# Altium schematic symbol library kmilo17pet-TI_MSP430.SchLib: 1463 symbols (part 7 of 130)
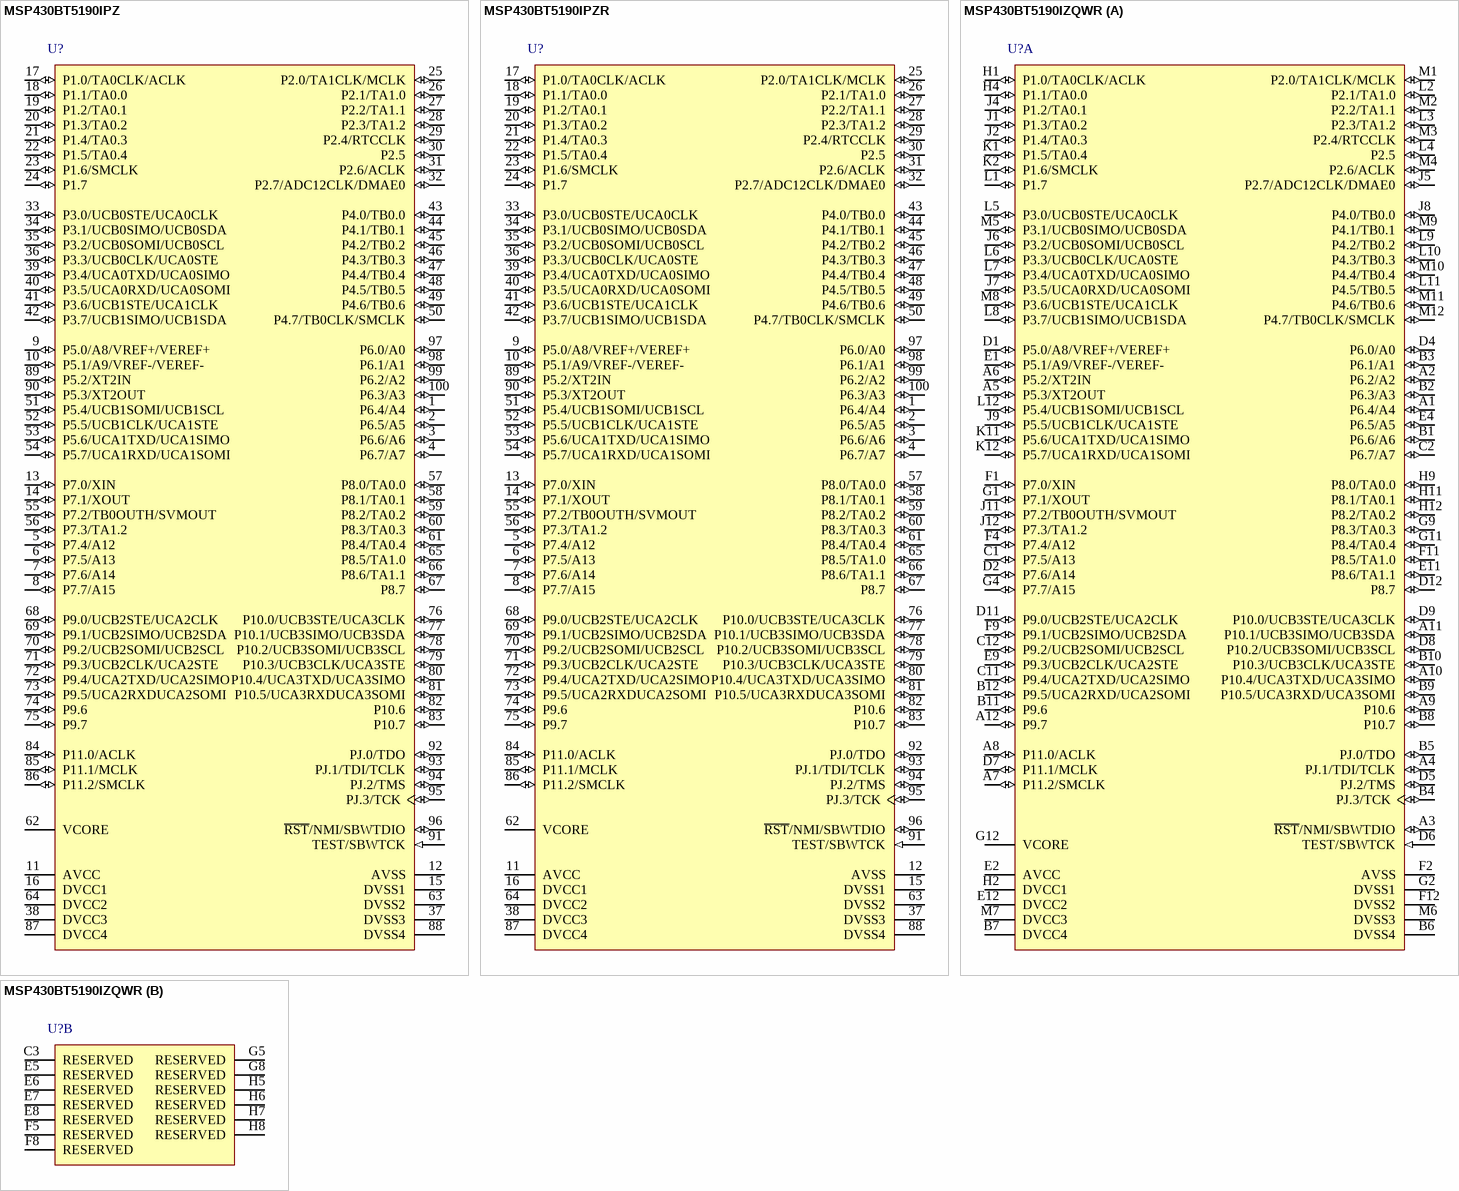
[diagram p240: symbols MSP430BT5190IPZ to MSP430BT5190IZQWR]

## MSP430BT5190IPZ
designator U?
25 MHz Mixed Signal Microcontroller with 256 KB Flash, 16384 B SRAM, -40 to 85 degC, 100-pin QFP (PZ), Green (RoHS & no Sb/Br); Manufacturer: Texas Instruments; PartNumber: MSP430BT5190IPZ; ADC: 12-bit SAR; ADC Channels: 16; Brown Out Reset: Yes; DMA: 3; Flash(KB): 256; Frequency(MHz): 25; Multiplier: 32x32; SRAM(B): 16384; SubFamily: 5 Series; USCI_A (UART/LIN/IrDA/SPI): 4; DatasheetVersion: SLAS703; PackageVersion: 4040149/B; PackageReference: PZ100; PackageDescription: 100-Pin Plastic Flat Pack, Body 14 x 14 mm, Pitch 0.5 mm; Supplier 1: Digi-Key; Supplier Part Number 1: 296-33412-5-ND; Supplier 2: Newark; Supplier Part Number 2: 01T0521; Supplier 3: Mouser; Supplier Part Number 3: 595-MSP430BT5190IPZ; Eco-Plan: Green (RoHS & no Sb/Br); Real-Time Clock: Yes; SVS: Yes; Temp Sensor: Yes; Timers - 16-bit: 3; USCI_B (I2C & SPI): 4; Watchdog: Yes; Mounting Technology: Surface Mount; Code_JEDEC: MS-026; ComponentLink1Description: Manufacturer URL; ComponentLink1URL: http://www.ti.com/; ComponentLink2Description: Datasheet; ComponentLink2URL: http://www.ti.com/general/docs/lit/getliterature.tsp?genericPartNumber=MSP430BT5190&fileType=pdf; ComponentLink3Description: Package Specification; ComponentLink3URL: http://www.ti.com/lit/ml/mtqf013a/mtqf013a.pdf
footprint TI-PZ100_N (QFP, 100-Leads, Body 14x14mm, Pitch 0.5mm, IPC Medium Density)
pins: 1 P6.4/A4 (io), 2 P6.5/A5 (io), 3 P6.6/A6 (io), 4 P6.7/A7 (io), 5 P7.4/A12 (io), 6 P7.5/A13 (io), 7 P7.6/A14 (io), 8 P7.7/A15 (io), 9 P5.0/A8/VREF+/VEREF+ (io), 10 P5.1/A9/VREF-/VEREF- (io), 11 AVCC (power) "Analog power supply", 12 AVSS (power) "Analog ground supply", 13 P7.0/XIN (io), 14 P7.1/XOUT (io), 15 DVSS1 (power) "Digital ground supply", 16 DVCC1 (power) "Digital power supply", 17 P1.0/TA0CLK/ACLK (io), 18 P1.1/TA0.0 (io), 19 P1.2/TA0.1 (io), 20 P1.3/TA0.2 (io), 21 P1.4/TA0.3 (io), 22 P1.5/TA0.4 (io), 23 P1.6/SMCLK (io), 24 P1.7 (io) "General-purpose digital I/O with port interrupt", 25 P2.0/TA1CLK/MCLK (io), 26 P2.1/TA1.0 (io), 27 P2.2/TA1.1 (io), 28 P2.3/TA1.2 (io), 29 P2.4/RTCCLK (io), 30 P2.5 (io) "General-purpose digital I/O with port interrupt", 31 P2.6/ACLK (io), 32 P2.7/ADC12CLK/DMAE0 (io), 33 P3.0/UCB0STE/UCA0CLK (io), 34 P3.1/UCB0SIMO/UCB0SDA (io), 35 P3.2/UCB0SOMI/UCB0SCL (io), 36 P3.3/UCB0CLK/UCA0STE (io), 37 DVSS3 (power) "Digital ground supply", 38 DVCC3 (power) "Digital power supply", 39 P3.4/UCA0TXD/UCA0SIMO (io), 40 P3.5/UCA0RXD/UCA0SOMI (io), 41 P3.6/UCB1STE/UCA1CLK (io), 42 P3.7/UCB1SIMO/UCB1SDA (io), 43 P4.0/TB0.0 (io), 44 P4.1/TB0.1 (io), 45 P4.2/TB0.2 (io), 46 P4.3/TB0.3 (io), 47 P4.4/TB0.4 (io), 48 P4.5/TB0.5 (io), 49 P4.6/TB0.6 (io), 50 P4.7/TB0CLK/SMCLK (io), 51 P5.4/UCB1SOMI/UCB1SCL (io), 52 P5.5/UCB1CLK/UCA1STE (io), 53 P5.6/UCA1TXD/UCA1SIMO (io), 54 P5.7/UCA1RXD/UCA1SOMI (io), 55 P7.2/TB0OUTH/SVMOUT (io), 56 P7.3/TA1.2 (io), 57 P8.0/TA0.0 (io), 58 P8.1/TA0.1 (io), 59 P8.2/TA0.2 (io), 60 P8.3/TA0.3 (io), 61 P8.4/TA0.4 (io), 62 VCORE "Regulated core power supply output (internal usage only, no external current loading)", 63 DVSS2 (power) "Digital ground supply", 64 DVCC2 (power) "Digital power supply", 65 P8.5/TA1.0 (io), 66 P8.6/TA1.1 (io), 67 P8.7 (io) "General-purpose digital I/O", 68 P9.0/UCB2STE/UCA2CLK (io), 69 P9.1/UCB2SIMO/UCB2SDA (io), 70 P9.2/UCB2SOMI/UCB2SCL (io), 71 P9.3/UCB2CLK/UCA2STE (io), 72 P9.4/UCA2TXD/UCA2SIMO (io), 73 P9.5/UCA2RXDUCA2SOMI (io), 74 P9.6 (io) "General-purpose digital I/O", 75 P9.7 (io) "General-purpose digital I/O", 76 P10.0/UCB3STE/UCA3CLK (io), 77 P10.1/UCB3SIMO/UCB3SDA (io), 78 P10.2/UCB3SOMI/UCB3SCL (io), 79 P10.3/UCB3CLK/UCA3STE (io), 80 P10.4/UCA3TXD/UCA3SIMO (io), 81 P10.5/UCA3RXDUCA3SOMI (io), 82 P10.6 (io) "General-purpose digital I/O", 83 P10.7 (io) "General-purpose digital I/O", 84 P11.0/ACLK (io), 85 P11.1/MCLK (io), 86 P11.2/SMCLK (io), 87 DVCC4 (power) "Digital power supply", 88 DVSS4 (power) "Digital ground supply", 89 P5.2/XT2IN (io), 90 P5.3/XT2OUT (io), 91 TEST/SBWTCK (in), 92 PJ.0/TDO (io), 93 PJ.1/TDI/TCLK (io), 94 PJ.2/TMS (io), 95 PJ.3/TCK (io), 96 ~{RST}/NMI/SBWTDIO (io), 97 P6.0/A0 (io), 98 P6.1/A1 (io), 99 P6.2/A2 (io), 100 P6.3/A3 (io)

## MSP430BT5190IPZR
designator U?
25 MHz Mixed Signal Microcontroller with 256 KB Flash, 16384 B SRAM, -40 to 85 degC, 100-pin QFP (PZ), Green (RoHS & no Sb/Br); Manufacturer: Texas Instruments; PartNumber: MSP430BT5190IPZR; ADC: 12-bit SAR; ADC Channels: 16; Brown Out Reset: Yes; DMA: 3; Flash(KB): 256; Frequency(MHz): 25; Multiplier: 32x32; SRAM(B): 16384; SubFamily: 5 Series; USCI_A (UART/LIN/IrDA/SPI): 4; DatasheetVersion: SLAS703; PackageVersion: 4040149/B; PackageReference: PZ100; PackageDescription: 100-Pin Plastic Flat Pack, Body 14 x 14 mm, Pitch 0.5 mm; Supplier 1: Digi-Key; Supplier Part Number 1: 296-28149-2-ND; Supplier 2: Digi-Key; Supplier Part Number 2: 296-28149-1-ND; Supplier 3: Digi-Key; Supplier Part Number 3: 296-28149-6-ND; Supplier 4: Newark; Supplier Part Number 4: 01T0522; Supplier 5: Mouser; Supplier Part Number 5: 595-MSP430BT5190IPZR; Eco-Plan: Green (RoHS & no Sb/Br); Real-Time Clock: Yes; SVS: Yes; Temp Sensor: Yes; Timers - 16-bit: 3; USCI_B (I2C & SPI): 4; Watchdog: Yes; Mounting Technology: Surface Mount; Code_JEDEC: MS-026; ComponentLink1Description: Manufacturer URL; ComponentLink1URL: http://www.ti.com/; ComponentLink2Description: Datasheet; ComponentLink2URL: http://www.ti.com/general/docs/lit/getliterature.tsp?genericPartNumber=MSP430BT5190&fileType=pdf; ComponentLink3Description: Package Specification; ComponentLink3URL: http://www.ti.com/lit/ml/mtqf013a/mtqf013a.pdf
footprint TI-PZ100_N (QFP, 100-Leads, Body 14x14mm, Pitch 0.5mm, IPC Medium Density)
pins: 1 P6.4/A4 (io), 2 P6.5/A5 (io), 3 P6.6/A6 (io), 4 P6.7/A7 (io), 5 P7.4/A12 (io), 6 P7.5/A13 (io), 7 P7.6/A14 (io), 8 P7.7/A15 (io), 9 P5.0/A8/VREF+/VEREF+ (io), 10 P5.1/A9/VREF-/VEREF- (io), 11 AVCC (power) "Analog power supply", 12 AVSS (power) "Analog ground supply", 13 P7.0/XIN (io), 14 P7.1/XOUT (io), 15 DVSS1 (power) "Digital ground supply", 16 DVCC1 (power) "Digital power supply", 17 P1.0/TA0CLK/ACLK (io), 18 P1.1/TA0.0 (io), 19 P1.2/TA0.1 (io), 20 P1.3/TA0.2 (io), 21 P1.4/TA0.3 (io), 22 P1.5/TA0.4 (io), 23 P1.6/SMCLK (io), 24 P1.7 (io) "General-purpose digital I/O with port interrupt", 25 P2.0/TA1CLK/MCLK (io), 26 P2.1/TA1.0 (io), 27 P2.2/TA1.1 (io), 28 P2.3/TA1.2 (io), 29 P2.4/RTCCLK (io), 30 P2.5 (io) "General-purpose digital I/O with port interrupt", 31 P2.6/ACLK (io), 32 P2.7/ADC12CLK/DMAE0 (io), 33 P3.0/UCB0STE/UCA0CLK (io), 34 P3.1/UCB0SIMO/UCB0SDA (io), 35 P3.2/UCB0SOMI/UCB0SCL (io), 36 P3.3/UCB0CLK/UCA0STE (io), 37 DVSS3 (power) "Digital ground supply", 38 DVCC3 (power) "Digital power supply", 39 P3.4/UCA0TXD/UCA0SIMO (io), 40 P3.5/UCA0RXD/UCA0SOMI (io), 41 P3.6/UCB1STE/UCA1CLK (io), 42 P3.7/UCB1SIMO/UCB1SDA (io), 43 P4.0/TB0.0 (io), 44 P4.1/TB0.1 (io), 45 P4.2/TB0.2 (io), 46 P4.3/TB0.3 (io), 47 P4.4/TB0.4 (io), 48 P4.5/TB0.5 (io), 49 P4.6/TB0.6 (io), 50 P4.7/TB0CLK/SMCLK (io), 51 P5.4/UCB1SOMI/UCB1SCL (io), 52 P5.5/UCB1CLK/UCA1STE (io), 53 P5.6/UCA1TXD/UCA1SIMO (io), 54 P5.7/UCA1RXD/UCA1SOMI (io), 55 P7.2/TB0OUTH/SVMOUT (io), 56 P7.3/TA1.2 (io), 57 P8.0/TA0.0 (io), 58 P8.1/TA0.1 (io), 59 P8.2/TA0.2 (io), 60 P8.3/TA0.3 (io), 61 P8.4/TA0.4 (io), 62 VCORE "Regulated core power supply output (internal usage only, no external current loading)", 63 DVSS2 (power) "Digital ground supply", 64 DVCC2 (power) "Digital power supply", 65 P8.5/TA1.0 (io), 66 P8.6/TA1.1 (io), 67 P8.7 (io) "General-purpose digital I/O", 68 P9.0/UCB2STE/UCA2CLK (io), 69 P9.1/UCB2SIMO/UCB2SDA (io), 70 P9.2/UCB2SOMI/UCB2SCL (io), 71 P9.3/UCB2CLK/UCA2STE (io), 72 P9.4/UCA2TXD/UCA2SIMO (io), 73 P9.5/UCA2RXDUCA2SOMI (io), 74 P9.6 (io) "General-purpose digital I/O", 75 P9.7 (io) "General-purpose digital I/O", 76 P10.0/UCB3STE/UCA3CLK (io), 77 P10.1/UCB3SIMO/UCB3SDA (io), 78 P10.2/UCB3SOMI/UCB3SCL (io), 79 P10.3/UCB3CLK/UCA3STE (io), 80 P10.4/UCA3TXD/UCA3SIMO (io), 81 P10.5/UCA3RXDUCA3SOMI (io), 82 P10.6 (io) "General-purpose digital I/O", 83 P10.7 (io) "General-purpose digital I/O", 84 P11.0/ACLK (io), 85 P11.1/MCLK (io), 86 P11.2/SMCLK (io), 87 DVCC4 (power) "Digital power supply", 88 DVSS4 (power) "Digital ground supply", 89 P5.2/XT2IN (io), 90 P5.3/XT2OUT (io), 91 TEST/SBWTCK (in), 92 PJ.0/TDO (io), 93 PJ.1/TDI/TCLK (io), 94 PJ.2/TMS (io), 95 PJ.3/TCK (io), 96 ~{RST}/NMI/SBWTDIO (io), 97 P6.0/A0 (io), 98 P6.1/A1 (io), 99 P6.2/A2 (io), 100 P6.3/A3 (io)

## MSP430BT5190IZQWR
designator U?
25 MHz Mixed Signal Mircocontroller with 256 KB Flash, 16384 B SRAM, -40 to 85 degC, 113-pin BGA (ZQW), Green (RoHS & no Sb/Br); Manufacturer: Texas Instruments; PartNumber: MSP430BT5190IZQWR; ADC: 12-bit SAR; ADC Channels: 16; Brown Out Reset: Yes; DMA: 3; Flash(KB): 256; Frequency(MHz): 25; Multiplier: 32x32; SRAM(B): 16384; SubFamily: 5 Series; USCI_A (UART/LIN/IrDA/SPI): 4; DatasheetVersion: SLAS703; PackageVersion: 4204599-3/D; PackageReference: ZQW113; PackageDescription: 113-Pin Plastic Ball Grid Array Package, Body 7 x 7 mm, Pitch 0.5 mm; Supplier 1: Digi-Key; Supplier Part Number 1: 296-27861-2-ND; Supplier 2: Digi-Key; Supplier Part Number 2: 296-27861-1-ND; Supplier 3: Digi-Key; Supplier Part Number 3: 296-27861-6-ND; Supplier 4: Newark; Supplier Part Number 4: 01T0523; Supplier 5: Mouser; Supplier Part Number 5: 595-SP430BT5190IZQWR; Eco-Plan: Green (RoHS & no Sb/Br); Real-Time Clock: Yes; SVS: Yes; Temp Sensor: Yes; Timers - 16-bit: 3; USCI_B (I2C & SPI): 4; Watchdog: Yes; Mounting Technology: Surface Mount; Code_JEDEC: MO-225; ComponentLink1Description: Manufacturer URL; ComponentLink1URL: http://www.ti.com/; ComponentLink2Description: Datasheet; ComponentLink2URL: http://www.ti.com/general/docs/lit/getliterature.tsp?genericPartNumber=MSP430BT5190&fileType=pdf; ComponentLink3Description: Package Specification; ComponentLink3URL: http://www.ti.com/lit/ml/mpbg674/mpbg674.pdf
footprint TI-ZQW113 (BGA, 113-Balls, Body 7x7mm, Pitch 0.5mm)
part A pins: A1 P6.4/A4 (io), A2 P6.2/A2 (io), A3 ~{RST}/NMI/SBWTDIO (io), A4 PJ.1/TDI/TCLK (io), A5 P5.3/XT2OUT (io), A6 P5.2/XT2IN (io), A7 P11.2/SMCLK (io), A8 P11.0/ACLK (io), A9 P10.6 (io) "General-purpose digital I/O", A10 P10.4/UCA3TXD/UCA3SIMO (io), A11 P10.1/UCB3SIMO/UCB3SDA (io), A12 P9.7 (io) "General-purpose digital I/O", B1 P6.6/A6 (io), B2 P6.3/A3 (io), B3 P6.1/A1 (io), B4 PJ.3/TCK (io), B5 PJ.0/TDO (io), B6 DVSS4 (power) "Digital ground supply", B7 DVCC4 (power) "Digital power supply", B8 P10.7 (io) "General-purpose digital I/O", B9 P10.5/UCA3RXD/UCA3SOMI (io), B10 P10.3/UCB3CLK/UCA3STE (io), B11 P9.6 (io) "General-purpose digital I/O", B12 P9.5/UCA2RXD/UCA2SOMI (io), C1 P7.5/A13 (io), C2 P6.7/A7 (io), C11 P9.4/UCA2TXD/UCA2SIMO (io), C12 P9.2/UCB2SOMI/UCB2SCL (io), D1 P5.0/A8/VREF+/VEREF+ (io), D2 P7.6/A14 (io), D4 P6.0/A0 (io), D5 PJ.2/TMS (io), D6 TEST/SBWTCK (in), D7 P11.1/MCLK (io), D8 P10.2/UCB3SOMI/UCB3SCL (io), D9 P10.0/UCB3STE/UCA3CLK (io), D11 P9.0/UCB2STE/UCA2CLK (io), D12 P8.7 (io) "General-purpose digital I/O", E1 P5.1/A9/VREF-/VEREF- (io), E2 AVCC (power) "Analog power supply", E4 P6.5/A5 (io), E9 P9.3/UCB2CLK/UCA2STE (io), E11 P8.6/TA1.1 (io), E12 DVCC2 (power) "Digital power supply", F1 P7.0/XIN (io), F2 AVSS (power) "Analog ground supply", F4 P7.4/A12 (io), F9 P9.1/UCB2SIMO/UCB2SDA (io), F11 P8.5/TA1.0 (io), F12 DVSS2 (power) "Digital ground supply", G1 P7.1/XOUT (io), G2 DVSS1 (power) "Digital ground supply", G4 P7.7/A15 (io), G9 P8.3/TA0.3 (io), G11 P8.4/TA0.4 (io), G12 VCORE "Regulated core power supply output (internal usage only, no external current loading)", H1 P1.0/TA0CLK/ACLK (io), H2 DVCC1 (power) "Digital power supply", H4 P1.1/TA0.0 (io), H9 P8.0/TA0.0 (io), H11 P8.1/TA0.1 (io), H12 P8.2/TA0.2 (io), J1 P1.3/TA0.2 (io), J2 P1.4/TA0.3 (io), J4 P1.2/TA0.1 (io), J5 P2.7/ADC12CLK/DMAE0 (io), J6 P3.2/UCB0SOMI/UCB0SCL (io), J7 P3.5/UCA0RXD/UCA0SOMI (io), J8 P4.0/TB0.0 (io), J9 P5.5/UCB1CLK/UCA1STE (io), J11 P7.2/TB0OUTH/SVMOUT (io), J12 P7.3/TA1.2 (io), K1 P1.5/TA0.4 (io), K2 P1.6/SMCLK (io), K11 P5.6/UCA1TXD/UCA1SIMO (io), K12 P5.7/UCA1RXD/UCA1SOMI (io), L1 P1.7 (io) "General-purpose digital I/O", L2 P2.1/TA1.0 (io), L3 P2.3/TA1.2 (io), L4 P2.5 (io) "General-purpose digital I/O", L5 P3.0/UCB0STE/UCA0CLK (io), L6 P3.3/UCB0CLK/UCA0STE (io), L7 P3.4/UCA0TXD/UCA0SIMO (io), L8 P3.7/UCB1SIMO/UCB1SDA (io), L9 P4.2/TB0.2 (io), L10 P4.3/TB0.3 (io), L11 P4.5/TB0.5 (io), L12 P5.4/UCB1SOMI/UCB1SCL (io), M1 P2.0/TA1CLK/MCLK (io), M2 P2.2/TA1.1 (io), M3 P2.4/RTCCLK (io), M4 P2.6/ACLK (io), M5 P3.1/UCB0SIMO/UCB0SDA (io), M6 DVSS3 (power) "Digital ground supply", M7 DVCC3 (power) "Digital power supply", M8 P3.6/UCB1STE/UCA1CLK (io), M9 P4.1/TB0.1 (io), M10 P4.4/TB0.4 (io), M11 P4.6/TB0.6 (io), M12 P4.7/TB0CLK/SMCLK (io)
part B pins: C3 RESERVED "Reserved and should be connected to ground.", E5 RESERVED "Reserved and should be connected to ground.", E6 RESERVED "Reserved and should be connected to ground.", E7 RESERVED "Reserved and should be connected to ground.", E8 RESERVED "Reserved and should be connected to ground.", F5 RESERVED "Reserved and should be connected to ground.", F8 RESERVED "Reserved and should be connected to ground.", G5 RESERVED "Reserved and should be connected to ground.", G8 RESERVED "Reserved and should be connected to ground.", H5 RESERVED "Reserved and should be connected to ground.", H6 RESERVED "Reserved and should be connected to ground.", H7 RESERVED "Reserved and should be connected to ground.", H8 RESERVED "Reserved and should be connected to ground."

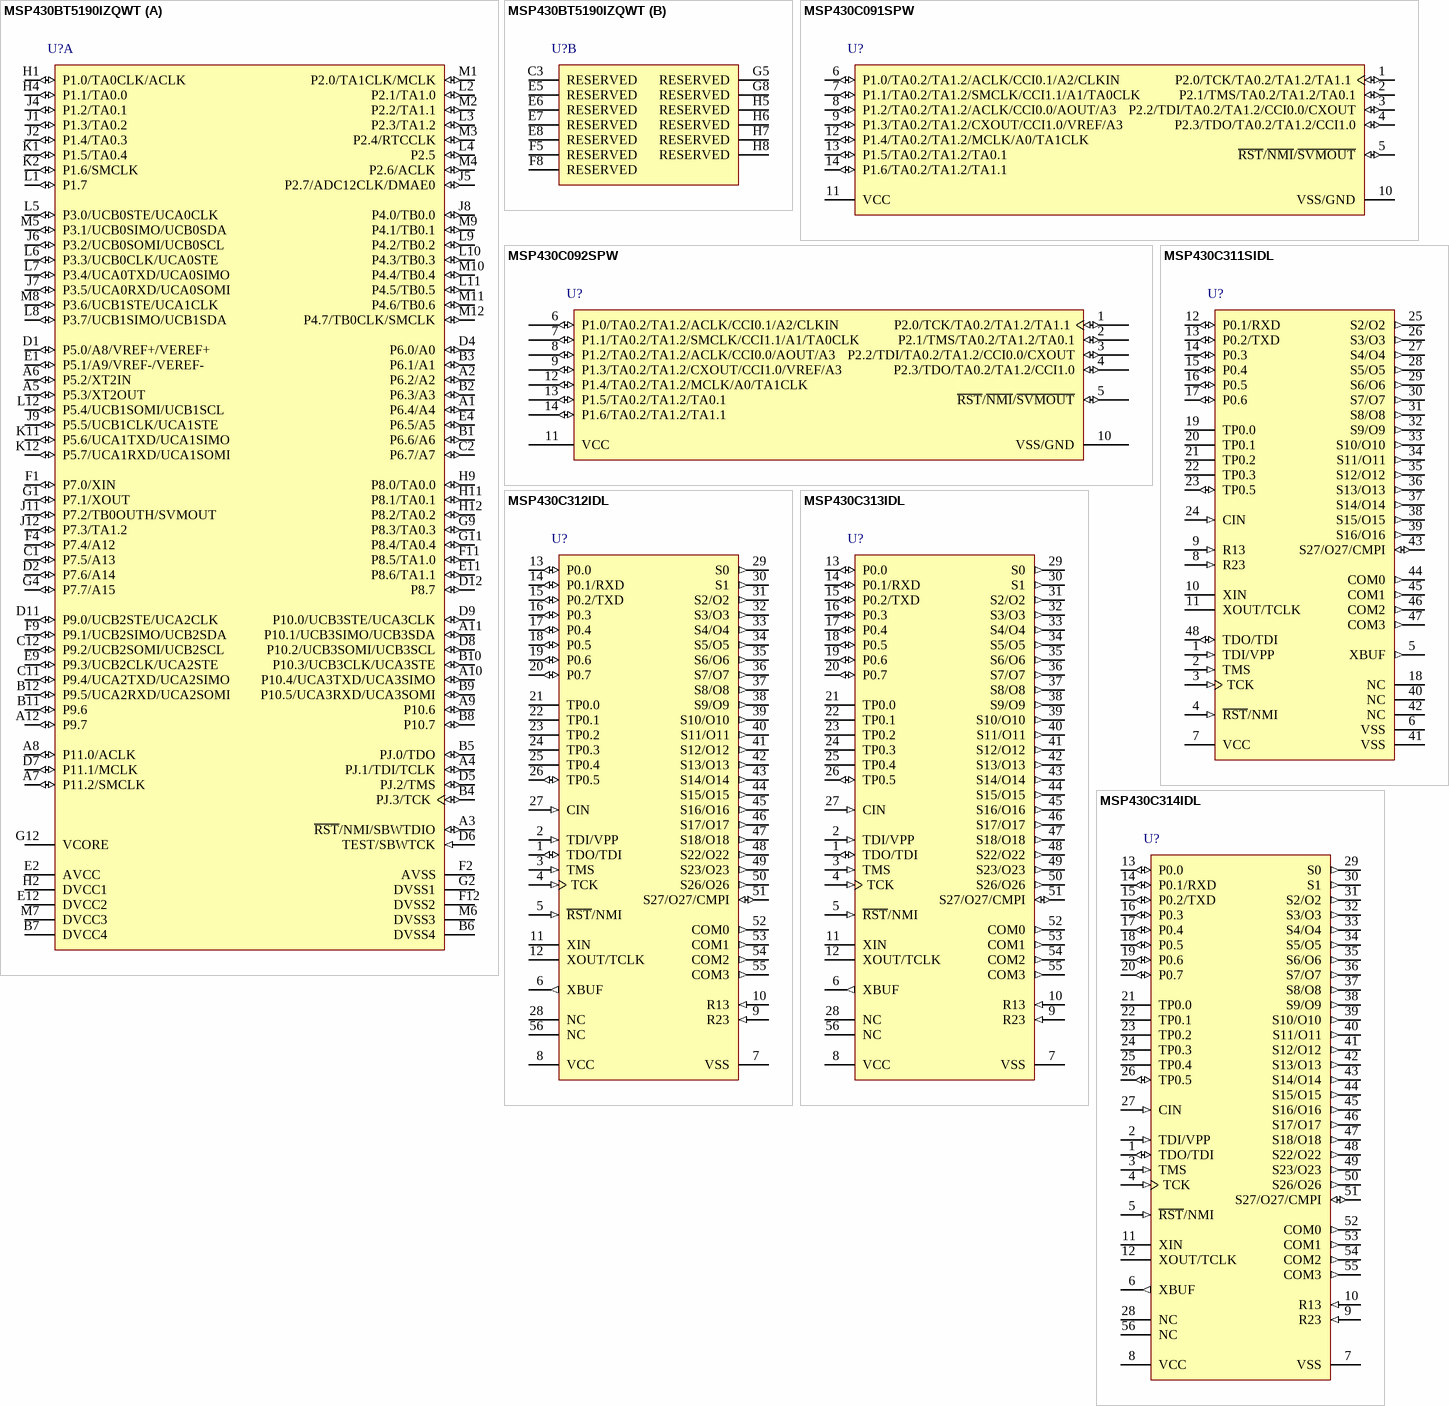
[diagram p13: symbols MSP430BT5190IZQWT to MSP430C314IDL]

## MSP430BT5190IZQWT
designator U?
25 MHz Mixed Signal Mircocontroller with 256 KB Flash, 16384 B SRAM, -40 to 85 degC, 113-pin BGA (ZQW), Green (RoHS & no Sb/Br); Manufacturer: Texas Instruments; PartNumber: MSP430BT5190IZQWT; ADC: 12-bit SAR; ADC Channels: 16; Brown Out Reset: Yes; DMA: 3; Flash(KB): 256; Frequency(MHz): 25; Multiplier: 32x32; SRAM(B): 16384; SubFamily: 5 Series; USCI_A (UART/LIN/IrDA/SPI): 4; DatasheetVersion: SLAS703; PackageVersion: 4204599-3/D; PackageReference: ZQW113; PackageDescription: 113-Pin Plastic Ball Grid Array Package, Body 7 x 7 mm, Pitch 0.5 mm; Supplier 1: Digi-Key; Supplier Part Number 1: 296-31680-2-ND; Supplier 2: Digi-Key; Supplier Part Number 2: 296-31680-1-ND; Supplier 3: Digi-Key; Supplier Part Number 3: 296-31680-6-ND; Supplier 4: Newark; Supplier Part Number 4: 01T0524; Supplier 5: Mouser; Supplier Part Number 5: 595-SP430BT5190IZQWT; Eco-Plan: Green (RoHS & no Sb/Br); Real-Time Clock: Yes; SVS: Yes; Temp Sensor: Yes; Timers - 16-bit: 3; USCI_B (I2C & SPI): 4; Watchdog: Yes; Mounting Technology: Surface Mount; Code_JEDEC: MO-225; ComponentLink1Description: Manufacturer URL; ComponentLink1URL: http://www.ti.com/; ComponentLink2Description: Datasheet; ComponentLink2URL: http://www.ti.com/general/docs/lit/getliterature.tsp?genericPartNumber=MSP430BT5190&fileType=pdf; ComponentLink3Description: Package Specification; ComponentLink3URL: http://www.ti.com/lit/ml/mpbg674/mpbg674.pdf
footprint TI-ZQW113 (BGA, 113-Balls, Body 7x7mm, Pitch 0.5mm)
part A pins: A1 P6.4/A4 (io), A2 P6.2/A2 (io), A3 ~{RST}/NMI/SBWTDIO (io), A4 PJ.1/TDI/TCLK (io), A5 P5.3/XT2OUT (io), A6 P5.2/XT2IN (io), A7 P11.2/SMCLK (io), A8 P11.0/ACLK (io), A9 P10.6 (io) "General-purpose digital I/O", A10 P10.4/UCA3TXD/UCA3SIMO (io), A11 P10.1/UCB3SIMO/UCB3SDA (io), A12 P9.7 (io) "General-purpose digital I/O", B1 P6.6/A6 (io), B2 P6.3/A3 (io), B3 P6.1/A1 (io), B4 PJ.3/TCK (io), B5 PJ.0/TDO (io), B6 DVSS4 (power) "Digital ground supply", B7 DVCC4 (power) "Digital power supply", B8 P10.7 (io) "General-purpose digital I/O", B9 P10.5/UCA3RXD/UCA3SOMI (io), B10 P10.3/UCB3CLK/UCA3STE (io), B11 P9.6 (io) "General-purpose digital I/O", B12 P9.5/UCA2RXD/UCA2SOMI (io), C1 P7.5/A13 (io), C2 P6.7/A7 (io), C11 P9.4/UCA2TXD/UCA2SIMO (io), C12 P9.2/UCB2SOMI/UCB2SCL (io), D1 P5.0/A8/VREF+/VEREF+ (io), D2 P7.6/A14 (io), D4 P6.0/A0 (io), D5 PJ.2/TMS (io), D6 TEST/SBWTCK (in), D7 P11.1/MCLK (io), D8 P10.2/UCB3SOMI/UCB3SCL (io), D9 P10.0/UCB3STE/UCA3CLK (io), D11 P9.0/UCB2STE/UCA2CLK (io), D12 P8.7 (io) "General-purpose digital I/O", E1 P5.1/A9/VREF-/VEREF- (io), E2 AVCC (power) "Analog power supply", E4 P6.5/A5 (io), E9 P9.3/UCB2CLK/UCA2STE (io), E11 P8.6/TA1.1 (io), E12 DVCC2 (power) "Digital power supply", F1 P7.0/XIN (io), F2 AVSS (power) "Analog ground supply", F4 P7.4/A12 (io), F9 P9.1/UCB2SIMO/UCB2SDA (io), F11 P8.5/TA1.0 (io), F12 DVSS2 (power) "Digital ground supply", G1 P7.1/XOUT (io), G2 DVSS1 (power) "Digital ground supply", G4 P7.7/A15 (io), G9 P8.3/TA0.3 (io), G11 P8.4/TA0.4 (io), G12 VCORE "Regulated core power supply output (internal usage only, no external current loading)", H1 P1.0/TA0CLK/ACLK (io), H2 DVCC1 (power) "Digital power supply", H4 P1.1/TA0.0 (io), H9 P8.0/TA0.0 (io), H11 P8.1/TA0.1 (io), H12 P8.2/TA0.2 (io), J1 P1.3/TA0.2 (io), J2 P1.4/TA0.3 (io), J4 P1.2/TA0.1 (io), J5 P2.7/ADC12CLK/DMAE0 (io), J6 P3.2/UCB0SOMI/UCB0SCL (io), J7 P3.5/UCA0RXD/UCA0SOMI (io), J8 P4.0/TB0.0 (io), J9 P5.5/UCB1CLK/UCA1STE (io), J11 P7.2/TB0OUTH/SVMOUT (io), J12 P7.3/TA1.2 (io), K1 P1.5/TA0.4 (io), K2 P1.6/SMCLK (io), K11 P5.6/UCA1TXD/UCA1SIMO (io), K12 P5.7/UCA1RXD/UCA1SOMI (io), L1 P1.7 (io) "General-purpose digital I/O", L2 P2.1/TA1.0 (io), L3 P2.3/TA1.2 (io), L4 P2.5 (io) "General-purpose digital I/O", L5 P3.0/UCB0STE/UCA0CLK (io), L6 P3.3/UCB0CLK/UCA0STE (io), L7 P3.4/UCA0TXD/UCA0SIMO (io), L8 P3.7/UCB1SIMO/UCB1SDA (io), L9 P4.2/TB0.2 (io), L10 P4.3/TB0.3 (io), L11 P4.5/TB0.5 (io), L12 P5.4/UCB1SOMI/UCB1SCL (io), M1 P2.0/TA1CLK/MCLK (io), M2 P2.2/TA1.1 (io), M3 P2.4/RTCCLK (io), M4 P2.6/ACLK (io), M5 P3.1/UCB0SIMO/UCB0SDA (io), M6 DVSS3 (power) "Digital ground supply", M7 DVCC3 (power) "Digital power supply", M8 P3.6/UCB1STE/UCA1CLK (io), M9 P4.1/TB0.1 (io), M10 P4.4/TB0.4 (io), M11 P4.6/TB0.6 (io), M12 P4.7/TB0CLK/SMCLK (io)
part B pins: C3 RESERVED "Reserved and should be connected to ground.", E5 RESERVED "Reserved and should be connected to ground.", E6 RESERVED "Reserved and should be connected to ground.", E7 RESERVED "Reserved and should be connected to ground.", E8 RESERVED "Reserved and should be connected to ground.", F5 RESERVED "Reserved and should be connected to ground.", F8 RESERVED "Reserved and should be connected to ground.", G5 RESERVED "Reserved and should be connected to ground.", G8 RESERVED "Reserved and should be connected to ground.", H5 RESERVED "Reserved and should be connected to ground.", H6 RESERVED "Reserved and should be connected to ground.", H7 RESERVED "Reserved and should be connected to ground.", H8 RESERVED "Reserved and should be connected to ground."

## MSP430C091SPW
designator U?
4 MHz Mixed Signal Microcontroller with 1 KB Flash, 128 B SRAM and 11 GPIOs, 0 to 50 degC, 14-pin SOP (PW); Manufacturer: Texas Instruments; PartNumber: MSP430C091SPW; ADC: 8-bit SAR; ADC Channels: 4; Brown Out Reset: Yes; GPIO: 11; SRAM(B): 128; SubFamily: Low Voltage Series; Timers - 16-bit: 2; DatasheetVersion: SLAS673; PackageVersion: 4040064-3/G; PackageReference: PW14; PackageDescription: 14-Pin Plastic Small Outline, Body 5 x 4.4 mm, 0.65 mm Pitch; Comparators: Yes; Frequency(MHz): 4; SVS: Yes; Temp Sensor: Yes; Watchdog: Yes; Mounting Technology: Surface Mount; Code_JEDEC: MO-153; ComponentLink1Description: Manufacturer URL; ComponentLink1URL: http://www.ti.com/; ComponentLink2Description: Datasheet; ComponentLink2URL: http://www.ti.com/general/docs/lit/getliterature.tsp?genericPartNumber=MSP430C091&fileType=pdf; ComponentLink3Description: Package Specification; ComponentLink3URL: http://www.ti.com/litv/pdf/mpds360
footprint TI-PW14_N (SOP, 14-Leads, Body 5x4.4mm, Pitch 0.65mm, IPC Medium Density)
pins: 1 P2.0/TCK/TA0.2/TA1.2/TA1.1 (io), 2 P2.1/TMS/TA0.2/TA1.2/TA0.1 (io), 3 P2.2/TDI/TA0.2/TA1.2/CCI0.0/CXOUT (io), 4 P2.3/TDO/TA0.2/TA1.2/CCI1.0 (io), 5 ~{RST}/~{NMI}/~{SVMOUT} (io), 6 P1.0/TA0.2/TA1.2/ACLK/CCI0.1/A2/CLKIN (io), 7 P1.1/TA0.2/TA1.2/SMCLK/CCI1.1/A1/TA0CLK (io), 8 P1.2/TA0.2/TA1.2/ACLK/CCI0.0/AOUT/A3 (io), 9 P1.3/TA0.2/TA1.2/CXOUT/CCI1.0/VREF/A3 (io), 10 VSS/GND (power) "Analog and digital power supply ground reference", 11 VCC (power) "Analog and digital power supply", 12 P1.4/TA0.2/TA1.2/MCLK/A0/TA1CLK (io), 13 P1.5/TA0.2/TA1.2/TA0.1 (io), 14 P1.6/TA0.2/TA1.2/TA1.1 (io)

## MSP430C092SPW
designator U?
4 MHz Mixed Signal Microcontroller with 2 KB Flash, 128 B SRAM and 11 GPIOs, 0 to 50 degC, 14-pin SOP (PW); Manufacturer: Texas Instruments; PartNumber: MSP430C092SPW; ADC: 8-bit SAR; ADC Channels: 4; Brown Out Reset: Yes; GPIO: 11; SRAM(B): 128; SubFamily: Low Voltage Series; Timers - 16-bit: 2; DatasheetVersion: SLAS673; PackageVersion: 4040064-3/G; PackageReference: PW14; PackageDescription: 14-Pin Plastic Small Outline, Body 5 x 4.4 mm, 0.65 mm Pitch; Comparators: Yes; Frequency(MHz): 4; SVS: Yes; Temp Sensor: Yes; Watchdog: Yes; Mounting Technology: Surface Mount; Code_JEDEC: MO-153; ComponentLink1Description: Manufacturer URL; ComponentLink1URL: http://www.ti.com/; ComponentLink2Description: Datasheet; ComponentLink2URL: http://www.ti.com/general/docs/lit/getliterature.tsp?genericPartNumber=MSP430C092&fileType=pdf; ComponentLink3Description: Package Specification; ComponentLink3URL: http://www.ti.com/litv/pdf/mpds360
footprint TI-PW14_N (SOP, 14-Leads, Body 5x4.4mm, Pitch 0.65mm, IPC Medium Density)
pins: 1 P2.0/TCK/TA0.2/TA1.2/TA1.1 (io), 2 P2.1/TMS/TA0.2/TA1.2/TA0.1 (io), 3 P2.2/TDI/TA0.2/TA1.2/CCI0.0/CXOUT (io), 4 P2.3/TDO/TA0.2/TA1.2/CCI1.0 (io), 5 ~{RST}/~{NMI}/~{SVMOUT} (io), 6 P1.0/TA0.2/TA1.2/ACLK/CCI0.1/A2/CLKIN (io), 7 P1.1/TA0.2/TA1.2/SMCLK/CCI1.1/A1/TA0CLK (io), 8 P1.2/TA0.2/TA1.2/ACLK/CCI0.0/AOUT/A3 (io), 9 P1.3/TA0.2/TA1.2/CXOUT/CCI1.0/VREF/A3 (io), 10 VSS/GND (power) "Analog and digital power supply ground reference", 11 VCC (power) "Analog and digital power supply", 12 P1.4/TA0.2/TA1.2/MCLK/A0/TA1CLK (io), 13 P1.5/TA0.2/TA1.2/TA0.1 (io), 14 P1.6/TA0.2/TA1.2/TA1.1 (io)

## MSP430C311SIDL
designator U?
3.3 MHz Mixed Signal Microcontroller with 2 KB Flash, 128 B SRAM, -40 to 85 degC, 48-pin SOP (DL); Manufacturer: Texas Instruments; PartNumber: MSP430C311SIDL; DatasheetVersion: SLAS165D; PackageVersion: 4040048/E; PackageReference: DL48; PackageDescription: 48-Pin Plastic Small Outline, Body 7.49 x 15.88 mm, Pitch 0.635 mm; Mounting Technology: Surface Mount; Code_JEDEC: MO-118; ComponentLink1Description: Manufacturer URL; ComponentLink1URL: http://www.ti.com/; ComponentLink2Description: Datasheet; ComponentLink2URL: http://www.ti.com/general/docs/lit/getliterature.tsp?genericPartNumber=MSP430C311&fileType=pdf; ComponentLink3Description: Package Specification; ComponentLink3URL: http://www.ti.com/lit/ml/msso001c/msso001c.pdf
footprint TI-DL48_N (SOP, 48-Leads, Body 15.88x7.49mm, Pitch 0.635mm, IPC Medium Density)
pins: 1 TDI/VPP (in), 2 TMS (in) "Test mode select. TMS is an input terminal for device programming and test.", 3 TCK (in) "Test clock. TCK is a clock input terminal for device programming and test.", 4 ~{RST}/NMI (in), 5 XBUF (out) "Clock signal output of system clock (MCLK) or crystal clock (ACLK)", 6 VSS (power) "Ground references", 7 VCC (power) "Supply voltage", 8 R23 (in) "Input of second positive analog LCD level (V2) (LCD)", 9 R13 (in) "Input of third positive analog LCD level (V3 of V4) (LCD)", 10 XIN "Input terminal of crystal oscillator", 11 XOUT/TCLK, 12 P0.1/RXD (io), 13 P0.2/TXD (io), 14 P0.3 (io) "General-purpose digital I/O pins, bit 3", 15 P0.4 (io) "General-purpose digital I/O pins, bit 4", 16 P0.5 (io) "General-purpose digital I/O pins, bit 5", 17 P0.6 (io) "General-purpose digital I/O pins, bit 6", 18 NC "No internal connection", 19 TP0.0 (hiz) "General-purpose 3-state digital output port, bit 0 (timer/port)", 20 TP0.1 (hiz) "General-purpose 3-state digital output port, bit 1 (timer/port)", 21 TP0.2 (hiz) "General-purpose 3-state digital output port, bit 2 (timer/port)", 22 TP0.3 (hiz) "General-purpose 3-state digital output port, bit 3 (timer/port)", 23 TP0.5 (io) "General-purpose 3-state digital I/O pin, bit 5 (timer/port)", 24 CIN (in) "Counter enable. CIN input enables counter (TPCNT1) (timer/port).", 25 S2/O2 (out), 26 S3/O3 (out), 27 S4/O4 (out), 28 S5/O5 (out), 29 S6/O6 (out), 30 S7/O7 (out), 31 S8/O8 (out), 32 S9/O9 (out), 33 S10/O10 (out), 34 S11/O11 (out), 35 S12/O12 (out), 36 S13/O13 (out), 37 S14/O14 (out), 38 S15/O15 (out), 39 S16/O16 (out), 40 NC "No internal connection", 41 VSS (power) "Ground references", 42 NC "No internal connection", 43 S27/O27/CMPI (io), 44 COM0 (out) "Common output pins, COM0-COM3 are used for LCD back planes.", 45 COM1 (out) "Common output pins, COM0-COM3 are used for LCD back planes.", 46 COM2 (out) "Common output pins, COM0-COM3 are used for LCD back planes.", 47 COM3 (out) "Common output pins, COM0-COM3 are used for LCD back planes.", 48 TDO/TDI (io)

## MSP430C312IDL
designator U?
3.3 MHz Mixed Signal Microcontroller with 4 KB Flash, 256 B SRAM, -40 to 85 degC, 56-pin SOP (DL); Manufacturer: Texas Instruments; PartNumber: MSP430C312IDL; DatasheetVersion: SLAS165D; PackageReference: DL56; PackageDescription: 56-Pin Plastic Small Outline, Body 7.49 x 18.42 mm, Pitch 0.635 mm; Supplier 1: Mouser; Supplier Part Number 1: N/A; Mounting Technology: Surface Mount; Code_JEDEC: MO-118; ComponentLink1Description: Manufacturer URL; ComponentLink1URL: http://www.ti.com/; ComponentLink2Description: Datasheet; ComponentLink2URL: http://www.ti.com/general/docs/lit/getliterature.tsp?genericPartNumber=MSP430C312&fileType=pdf; ComponentLink3Description: Package Specification; ComponentLink3URL: http://www.ti.com/litv/pdf/msso001c
footprint TI-DL56_N (SOP, 56-Leads, Body 18.42x7.49mm, Pitch 0.635mm, IPC Medium Density)
pins: 1 TDO/TDI (io), 2 TDI/VPP (in), 3 TMS (in) "Test mode select. TMS is an input terminal for device programming and test.", 4 TCK (in) "Test clock. TCK is a clock input terminal for device programming and test.", 5 ~{RST}/NMI (in), 6 XBUF (out) "Clock signal output of system clock (MCLK) or crystal clock (ACLK)", 7 VSS (power) "Ground reference", 8 VCC (power) "Supply voltage", 9 R23 (in) "Input of second positive analog LCD level (V2) (LCD)", 10 R13 (in) "Input of third positive analog LCD level (V3 of V4) (LCD)", 11 XIN "Input terminal of crystal oscillator", 12 XOUT/TCLK, 13 P0.0 (io) "General-purpose digital I/O pin", 14 P0.1/RXD (io), 15 P0.2/TXD (io), 16 P0.3 (io) "Five general-purpose digital I/O pins, bit 3-7", 17 P0.4 (io) "Five general-purpose digital I/O pins, bit 3-7", 18 P0.5 (io) "Five general-purpose digital I/O pins, bit 3-7", 19 P0.6 (io) "Five general-purpose digital I/O pins, bit 3-7", 20 P0.7 (io) "Five general-purpose digital I/O pins, bit 3-7", 21 TP0.0 (hiz) "General-purpose 3-state digital output port, bit 0 (timer/port)", 22 TP0.1 (hiz) "General-purpose 3-state digital output port, bit 1 (timer/port)", 23 TP0.2 (hiz) "General-purpose 3-state digital output port, bit 2 (timer/port)", 24 TP0.3 (hiz) "General-purpose 3-state digital output port, bit 3 (timer/port)", 25 TP0.4 (hiz) "General-purpose 3-state digital output port, bit 4 (timer/port)", 26 TP0.5 (io) "General-purpose 3-state digital I/O pin, bit 5 (timer/port)", 27 CIN (in) "Counter enable. CIN input enables counter (TPCNT1) (timer/port).", 28 NC "No internal connection", 29 S0 (out) "Segment line S0 (LCD)", 30 S1 (out) "Segment line S1 (LCD)", 31 S2/O2 (out), 32 S3/O3 (out), 33 S4/O4 (out), 34 S5/O5 (out), 35 S6/O6 (out), 36 S7/O7 (out), 37 S8/O8 (out), 38 S9/O9 (out), 39 S10/O10 (out), 40 S11/O11 (out), 41 S12/O12 (out), 42 S13/O13 (out), 43 S14/O14 (out), 44 S15/O15 (out), 45 S16/O16 (out), 46 S17/O17 (out), 47 S18/O18 (out), 48 S22/O22 (out), 49 S23/O23 (out), 50 S26/O26 (out), 51 S27/O27/CMPI (io), 52 COM0 (out) "Common output pins. COM0-COM3 are used for LCD back planes.", 53 COM1 (out) "Common output pins. COM0-COM3 are used for LCD back planes.", 54 COM2 (out) "Common output pins. COM0-COM3 are used for LCD back planes.", 55 COM3 (out) "Common output pins. COM0-COM3 are used for LCD back planes.", 56 NC "No internal connection"

## MSP430C313IDL
designator U?
3.3 MHz Mixed Signal Microcontroller with 8 KB Flash, 256 B SRAM, -40 to 85 degC, 56-pin PSOP (DL); Manufacturer: Texas Instruments; PartNumber: MSP430C313IDL; DatasheetVersion: SLAS165D; PackageReference: DL56; PackageDescription: 56-Pin Plastic Small Outline, Body 7.49 x 18.42 mm, Pitch 0.635 mm; Mounting Technology: Surface Mount; Code_JEDEC: MO-118; ComponentLink1Description: Manufacturer URL; ComponentLink1URL: http://www.ti.com/; ComponentLink2Description: Datasheet; ComponentLink2URL: http://www.ti.com/general/docs/lit/getliterature.tsp?genericPartNumber=MSP430C313&fileType=pdf; ComponentLink3Description: Package Specification; ComponentLink3URL: http://www.ti.com/litv/pdf/msso001c
footprint TI-DL56_N (SOP, 56-Leads, Body 18.42x7.49mm, Pitch 0.635mm, IPC Medium Density)
pins: 1 TDO/TDI (io), 2 TDI/VPP (in), 3 TMS (in) "Test mode select. TMS is an input terminal for device programming and test.", 4 TCK (in) "Test clock. TCK is a clock input terminal for device programming and test.", 5 ~{RST}/NMI (in), 6 XBUF (out) "Clock signal output of system clock (MCLK) or crystal clock (ACLK)", 7 VSS (power) "Ground reference", 8 VCC (power) "Supply voltage", 9 R23 (in) "Input of second positive analog LCD level (V2) (LCD)", 10 R13 (in) "Input of third positive analog LCD level (V3 of V4) (LCD)", 11 XIN "Input terminal of crystal oscillator", 12 XOUT/TCLK, 13 P0.0 (io) "General-purpose digital I/O pin", 14 P0.1/RXD (io), 15 P0.2/TXD (io), 16 P0.3 (io) "Five general-purpose digital I/O pins, bit 3-7", 17 P0.4 (io) "Five general-purpose digital I/O pins, bit 3-7", 18 P0.5 (io) "Five general-purpose digital I/O pins, bit 3-7", 19 P0.6 (io) "Five general-purpose digital I/O pins, bit 3-7", 20 P0.7 (io) "Five general-purpose digital I/O pins, bit 3-7", 21 TP0.0 (hiz) "General-purpose 3-state digital output port, bit 0 (timer/port)", 22 TP0.1 (hiz) "General-purpose 3-state digital output port, bit 1 (timer/port)", 23 TP0.2 (hiz) "General-purpose 3-state digital output port, bit 2 (timer/port)", 24 TP0.3 (hiz) "General-purpose 3-state digital output port, bit 3 (timer/port)", 25 TP0.4 (hiz) "General-purpose 3-state digital output port, bit 4 (timer/port)", 26 TP0.5 (io) "General-purpose 3-state digital I/O pin, bit 5 (timer/port)", 27 CIN (in) "Counter enable. CIN input enables counter (TPCNT1) (timer/port).", 28 NC "No internal connection", 29 S0 (out) "Segment line S0 (LCD)", 30 S1 (out) "Segment line S1 (LCD)", 31 S2/O2 (out), 32 S3/O3 (out), 33 S4/O4 (out), 34 S5/O5 (out), 35 S6/O6 (out), 36 S7/O7 (out), 37 S8/O8 (out), 38 S9/O9 (out), 39 S10/O10 (out), 40 S11/O11 (out), 41 S12/O12 (out), 42 S13/O13 (out), 43 S14/O14 (out), 44 S15/O15 (out), 45 S16/O16 (out), 46 S17/O17 (out), 47 S18/O18 (out), 48 S22/O22 (out), 49 S23/O23 (out), 50 S26/O26 (out), 51 S27/O27/CMPI (io), 52 COM0 (out) "Common output pins. COM0-COM3 are used for LCD back planes.", 53 COM1 (out) "Common output pins. COM0-COM3 are used for LCD back planes.", 54 COM2 (out) "Common output pins. COM0-COM3 are used for LCD back planes.", 55 COM3 (out) "Common output pins. COM0-COM3 are used for LCD back planes.", 56 NC "No internal connection"

## MSP430C314IDL
designator U?
3.3 MHz Mixed Signal Microcontroller with 12 KB Flash, 512 B SRAM, -40 to 85 degC, 56-PIN SOP (DL); Manufacturer: Texas Instruments; PartNumber: MSP430C314IDL; DatasheetVersion: SLAS165D; PackageReference: DL56; PackageDescription: 56-Pin Plastic Small Outline, Body 7.49 x 18.42 mm, Pitch 0.635 mm; Supplier 1: Mouser; Supplier Part Number 1: N/A; Mounting Technology: Surface Mount; Code_JEDEC: MO-118; ComponentLink1Description: Manufacturer URL; ComponentLink1URL: http://www.ti.com/; ComponentLink2Description: Datasheet; ComponentLink2URL: http://www.ti.com/general/docs/lit/getliterature.tsp?genericPartNumber=MSP430C314&fileType=pdf; ComponentLink3Description: Package Specification; ComponentLink3URL: http://www.ti.com/litv/pdf/msso001c
footprint TI-DL56_N (SOP, 56-Leads, Body 18.42x7.49mm, Pitch 0.635mm, IPC Medium Density)
pins: 1 TDO/TDI (io), 2 TDI/VPP (in), 3 TMS (in) "Test mode select. TMS is an input terminal for device programming and test.", 4 TCK (in) "Test clock. TCK is a clock input terminal for device programming and test.", 5 ~{RST}/NMI (in), 6 XBUF (out) "Clock signal output of system clock (MCLK) or crystal clock (ACLK)", 7 VSS (power) "Ground reference", 8 VCC (power) "Supply voltage", 9 R23 (in) "Input of second positive analog LCD level (V2) (LCD)", 10 R13 (in) "Input of third positive analog LCD level (V3 of V4) (LCD)", 11 XIN "Input terminal of crystal oscillator", 12 XOUT/TCLK, 13 P0.0 (io) "General-purpose digital I/O pin", 14 P0.1/RXD (io), 15 P0.2/TXD (io), 16 P0.3 (io) "Five general-purpose digital I/O pins, bit 3-7", 17 P0.4 (io) "Five general-purpose digital I/O pins, bit 3-7", 18 P0.5 (io) "Five general-purpose digital I/O pins, bit 3-7", 19 P0.6 (io) "Five general-purpose digital I/O pins, bit 3-7", 20 P0.7 (io) "Five general-purpose digital I/O pins, bit 3-7", 21 TP0.0 (hiz) "General-purpose 3-state digital output port, bit 0 (timer/port)", 22 TP0.1 (hiz) "General-purpose 3-state digital output port, bit 1 (timer/port)", 23 TP0.2 (hiz) "General-purpose 3-state digital output port, bit 2 (timer/port)", 24 TP0.3 (hiz) "General-purpose 3-state digital output port, bit 3 (timer/port)", 25 TP0.4 (hiz) "General-purpose 3-state digital output port, bit 4 (timer/port)", 26 TP0.5 (io) "General-purpose 3-state digital I/O pin, bit 5 (timer/port)", 27 CIN (in) "Counter enable. CIN input enables counter (TPCNT1) (timer/port).", 28 NC "No internal connection", 29 S0 (out) "Segment line S0 (LCD)", 30 S1 (out) "Segment line S1 (LCD)", 31 S2/O2 (out), 32 S3/O3 (out), 33 S4/O4 (out), 34 S5/O5 (out), 35 S6/O6 (out), 36 S7/O7 (out), 37 S8/O8 (out), 38 S9/O9 (out), 39 S10/O10 (out), 40 S11/O11 (out), 41 S12/O12 (out), 42 S13/O13 (out), 43 S14/O14 (out), 44 S15/O15 (out), 45 S16/O16 (out), 46 S17/O17 (out), 47 S18/O18 (out), 48 S22/O22 (out), 49 S23/O23 (out), 50 S26/O26 (out), 51 S27/O27/CMPI (io), 52 COM0 (out) "Common output pins. COM0-COM3 are used for LCD back planes.", 53 COM1 (out) "Common output pins. COM0-COM3 are used for LCD back planes.", 54 COM2 (out) "Common output pins. COM0-COM3 are used for LCD back planes.", 55 COM3 (out) "Common output pins. COM0-COM3 are used for LCD back planes.", 56 NC "No internal connection"

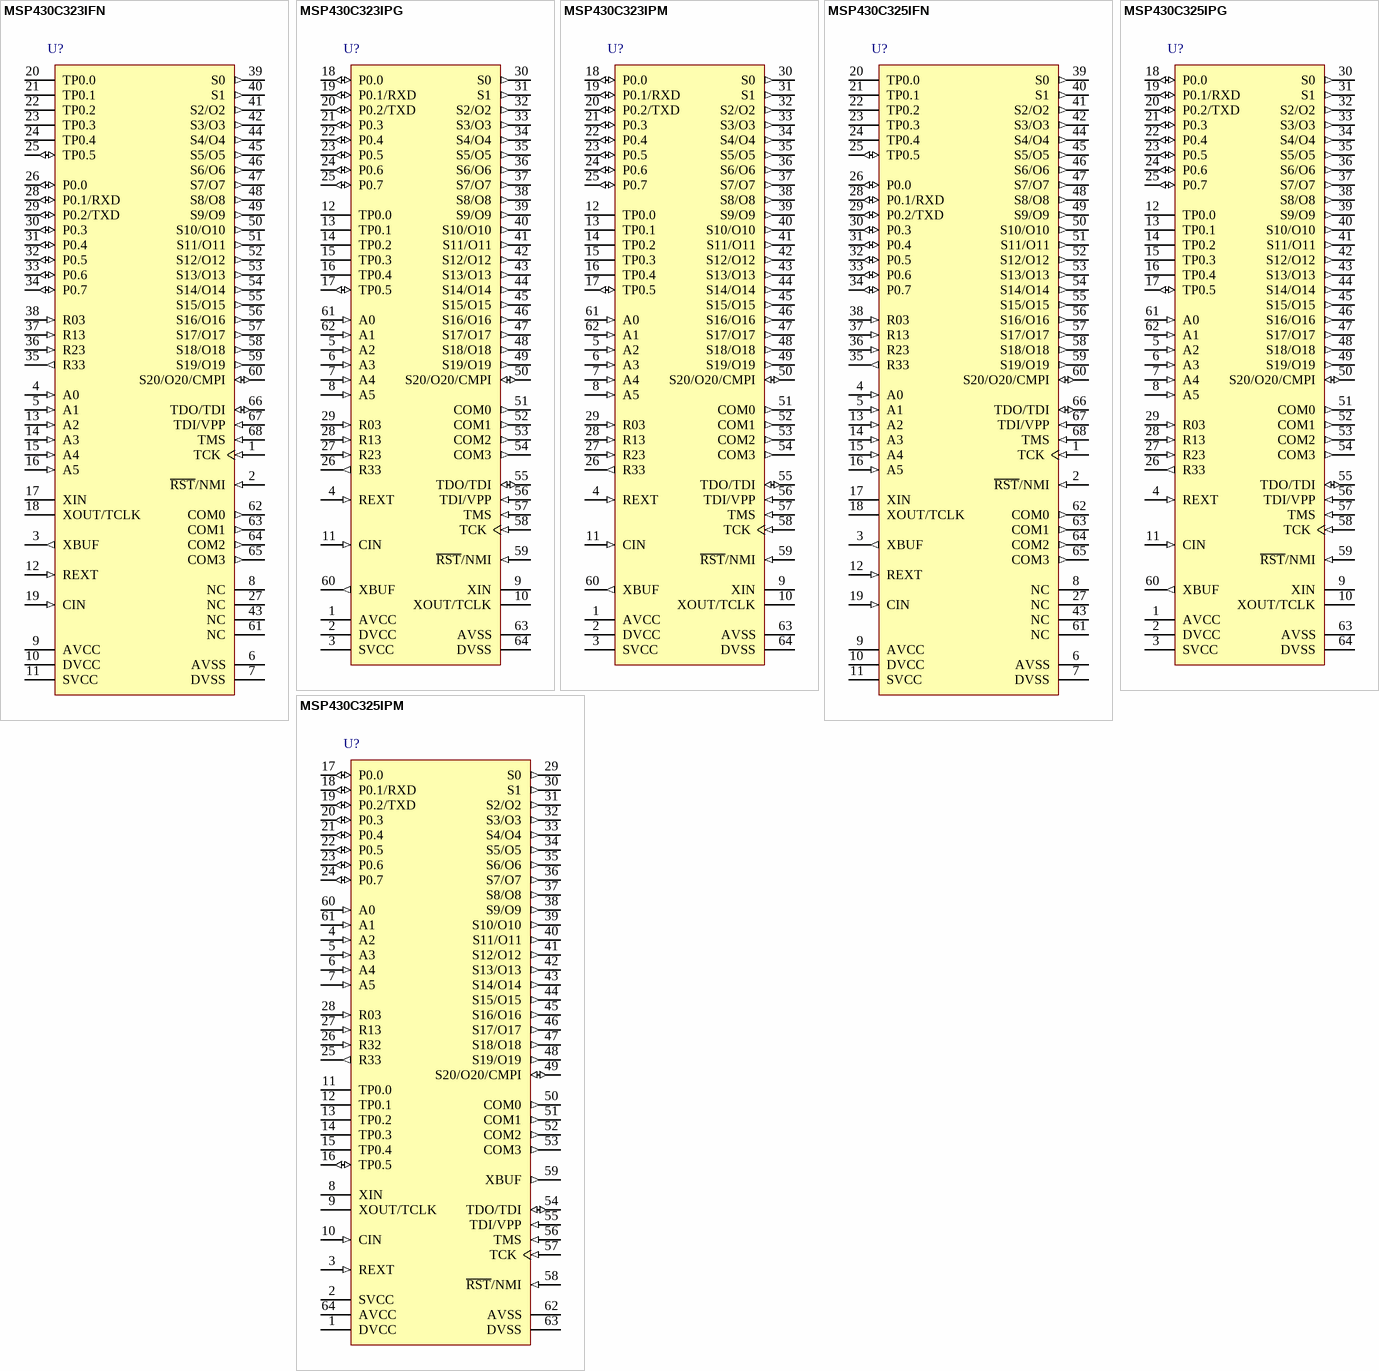
[diagram p14: symbols MSP430C323IFN to MSP430C325IPM]

## MSP430C323IFN
designator U?
Mixed Signal Microcontroller with 256 B RAM, -40 to 85 degC, 68-pin PLCC (FN); Manufacturer: Texas Instruments; PartNumber: MSP430C323IFN; DatasheetVersion: SLAS219B; PackageReference: FN68; PackageDescription: 68-Pin Plastic J-Leaded Chip Carrier, Body 24.23 x 24.23 mm, Pitch 1.27 mm; Supplier 1: Mouser; Supplier Part Number 1: N/A; Mounting Technology: Surface Mount; Code_JEDEC: MS-018; ComponentLink1Description: Manufacturer URL; ComponentLink1URL: http://www.ti.com/; ComponentLink2Description: Datasheet; ComponentLink2URL: http://www.ti.com/general/docs/lit/getliterature.tsp?genericPartNumber=MSP430C323&fileType=pdf; ComponentLink3Description: Package Specification; ComponentLink3URL: http://www.ti.com/litv/pdf/mplc004a
footprint TI-FN68_N (PLCC, 68-Leads, Body 24.23x24.23mm, Pitch 1.27mm, IPC Medium Density)
pins: 1 TCK (in) "Test clock, clock input terminal for device programming and test", 2 ~{RST}/NMI (in), 3 XBUF (out) "Clock signal output of system clock MCLK or crystal clock ACLK", 4 A0 (in) "Analog-to-digital converter input port 0 or digital input port 0", 5 A1 (in) "Analog-to-digital converter input port 0 or digital input port 1", 6 AVSS (power) "Analog ground reference", 7 DVSS (power) "Digital ground reference", 8 NC, 9 AVCC (power) "Positive analog supply voltage", 10 DVCC (power) "Positive digital supply voltage", 11 SVCC (power) "Switched AVCC to analog-to-digital converter", 12 REXT (in) "Programming resistor input of internal current source", 13 A2 (in) "Analog-to-digital converter input port 0 or digital input port 2", 14 A3 (in) "Analog-to-digital converter input port 0 or digital input port 3", 15 A4 (in) "Analog-to-digital converter input port 0 or digital input port 4", 16 A5 (in) "Analog-to-digital converter input port 0 or digital input port 5", 17 XIN "Input terminal of crystal oscillator", 18 XOUT/TCLK, 19 CIN (in) "Input used as enable of counter TPCNT1 - Timer/Port", 20 TP0.0 (hiz) "General-purpose 3-state digital output port, bit 0 - Timer/Port", 21 TP0.1 (hiz) "General-purpose 3-state digital output port, bit 1 - Timer/Port", 22 TP0.2 (hiz) "General-purpose 3-state digital output port, bit 2 - Timer/Port", 23 TP0.3 (hiz) "General-purpose 3-state digital output port, bit 3 - Timer/Port", 24 TP0.4 (hiz) "General-purpose 3-state digital output port, bit 4 - Timer/Port", 25 TP0.5 (io) "General-purpose digital input/output port, bit 5 - Timer/Port", 26 P0.0 (io) "General-purpose digital I/O", 27 NC, 28 P0.1/RXD (io), 29 P0.2/TXD (io), 30 P0.3 (io) "Five general-purpose digital I/Os, bit 3", 31 P0.4 (io) "Five general-purpose digital I/Os, bit 4", 32 P0.5 (io) "Five general-purpose digital I/Os, bit 5", 33 P0.6 (io) "Five general-purpose digital I/Os, bit 6", 34 P0.7 (io) "Five general-purpose digital I/Os, bit 7", 35 R33 (out) "Output of first positive analog LCD level (V1) - LCD", 36 R23 (in) "Input of second positive analog LCD level (V2) - LCD", 37 R13 (in) "Input of third positive analog LCD level (V3) - LCD", 38 R03 (in) "Input of fourth positive analog LCD level (V4) - LCD", 39 S0 (out) "Segment line S0 - LCD", 40 S1 (out) "Segment line S1 - LCD", 41 S2/O2 (out), 42 S3/O3 (out), 43 NC, 44 S4/O4 (out), 45 S5/O5 (out), 46 S6/O6 (out), 47 S7/O7 (out), 48 S8/O8 (out), 49 S9/O9 (out), 50 S10/O10 (out), 51 S11/O11 (out), 52 S12/O12 (out), 53 S13/O13 (out), 54 S14/O14 (out), 55 S15/O15 (out), 56 S16/O16 (out), 57 S17/O17 (out), 58 S18/O18 (out), 59 S19/O19 (out), 60 S20/O20/CMPI (io), 61 NC, 62 COM0 (out) "Common output, used for LCD backplanes - LCD", 63 COM1 (out) "Common output, used for LCD backplanes - LCD", 64 COM2 (out) "Common output, used for LCD backplanes - LCD", 65 COM3 (out) "Common output, used for LCD backplanes - LCD", 66 TDO/TDI (io), 67 TDI/VPP (in), 68 TMS (in) "Test mode select, input terminal for device programming and test"

## MSP430C323IPG
designator U?
Mixed Signal Microcontroller with 256 B RAM, -40 to 85 degC, 64-pin QFP (PG); Manufacturer: Texas Instruments; PartNumber: MSP430C323IPG; DatasheetVersion: SLAS219B; PackageVersion: 4040101/B; PackageReference: PG64; PackageDescription: 64-Pin Plastic Quad Flat Pack, Body 20 x 14 mm, Pitch 1.0 mm; Supplier 1: Mouser; Supplier Part Number 1: N/A; Mounting Technology: Surface Mount; ComponentLink1Description: Manufacturer URL; ComponentLink1URL: http://www.ti.com/; ComponentLink2Description: Datasheet; ComponentLink2URL: http://www.ti.com/general/docs/lit/getliterature.tsp?genericPartNumber=MSP430C323&fileType=pdf; ComponentLink3Description: Package Specification; ComponentLink3URL: http://www.ti.com/lit/ml/mqfp008/mqfp008.pdf
footprint TI-PG64_N (QFP, 64-Leads, Body 20x14mm, Pitch 1mm, IPC Medium Density)
pins: 1 AVCC (power) "Positive analog supply voltage", 2 DVCC (power) "Positive digital supply voltage", 3 SVCC (power) "Switched AVCC to analog-to-digital converter", 4 REXT (in) "Programming resistor input of internal current source", 5 A2 (in) "Analog-to-digital converter input port 2 or digital input port 2", 6 A3 (in) "Analog-to-digital converter input port 3 or digital input port 3", 7 A4 (in) "Analog-to-digital converter input port 4 or digital input port 4", 8 A5 (in) "Analog-to-digital converter input port 5 or digital input port 5", 9 XIN "Input terminal of crystal oscillator", 10 XOUT/TCLK, 11 CIN (in) "Input used as enable of counter TPCNT1 - Timer/Port", 12 TP0.0 (hiz) "General-purpose 3-state digital output port, bit 0 - Timer/Port", 13 TP0.1 (hiz) "General-purpose 3-state digital output port, bit 1 - Timer/Port", 14 TP0.2 (hiz) "General-purpose 3-state digital output port, bit 2 - Timer/Port", 15 TP0.3 (hiz) "General-purpose 3-state digital output port, bit 3 - Timer/Port", 16 TP0.4 (hiz) "General-purpose 3-state digital output port, bit 4 - Timer/Port", 17 TP0.5 (io) "General-purpose digital input/output port, bit 5 - Timer/Port", 18 P0.0 (io) "General-purpose digital I/O", 19 P0.1/RXD (io), 20 P0.2/TXD (io), 21 P0.3 (io) "General-purpose digital I/O", 22 P0.4 (io) "General-purpose digital I/O", 23 P0.5 (io) "General-purpose digital I/O", 24 P0.6 (io) "General-purpose digital I/O", 25 P0.7 (io) "General-purpose digital I/O", 26 R33 (out) "Output of first positive analog LCD level (V1) - LCD", 27 R23 (in) "Input of second positive analog LCD level (V2) - LCD", 28 R13 (in) "Input of third positive analog LCD level (V3) - LCD", 29 R03 (in) "Input of fourth positive analog LCD level (V4) - LCD", 30 S0 (out) "Segment line S0 - LCD", 31 S1 (out) "Segment line S1 - LCD", 32 S2/O2 (out), 33 S3/O3 (out), 34 S4/O4 (out), 35 S5/O5 (out), 36 S6/O6 (out), 37 S7/O7 (out), 38 S8/O8 (out), 39 S9/O9 (out), 40 S10/O10 (out), 41 S11/O11 (out), 42 S12/O12 (out), 43 S13/O13 (out), 44 S14/O14 (out), 45 S15/O15 (out), 46 S16/O16 (out), 47 S17/O17 (out), 48 S18/O18 (out), 49 S19/O19 (out), 50 S20/O20/CMPI (io), 51 COM0 (out) "Common output, used for LCD backplane - LCD", 52 COM1 (out) "Common output, used for LCD backplane - LCD", 53 COM2 (out) "Common output, used for LCD backplane - LCD", 54 COM3 (out) "Common output, used for LCD backplane - LCD", 55 TDO/TDI (io), 56 TDI/VPP (in), 57 TMS (in) "Test mode select, input terminal for device programming and test", 58 TCK (in) "Test clock, clock input terminal for device programming and test", 59 ~{RST}/NMI (in), 60 XBUF (out) "Clock signal output of system clock MCLK or crystal clock ACLK", 61 A0 (in) "Analog-to-digital converter input port 0 or digital input port 0", 62 A1 (in) "Analog-to-digital converter input port 1 or digital input port 1", 63 AVSS (power) "Analog ground reference", 64 DVSS (power) "Digital ground reference"

## MSP430C323IPM
designator U?
Mixed Signal Microcontroller with 8 KB Flash and 256 B RAM, -40 to 85 degC, 64-pin QFP (PM); Manufacturer: Texas Instruments; PartNumber: MSP430C323IPM; DatasheetVersion: SLAS219B; PackageVersion: 4040152/C; PackageReference: PM64; PackageDescription: 64-Pin Plastic Quad Flat Pack, Body 10 x 10 mm, Pitch 0.5 mm; Supplier 1: Mouser; Supplier Part Number 1: N/A; Mounting Technology: Surface Mount; Code_JEDEC: MS-026; ComponentLink1Description: Manufacturer URL; ComponentLink1URL: http://www.ti.com/; ComponentLink2Description: Datasheet; ComponentLink2URL: http://www.ti.com/general/docs/lit/getliterature.tsp?genericPartNumber=MSP430C323&fileType=pdf; ComponentLink3Description: Package Specification; ComponentLink3URL: http://www.ti.com/lit/ml/mtqf008a/mtqf008a.pdf
footprint TI-PM64_N (QFP, 64-Leads, Body 10x10mm, Pitch 0.5mm, IPC Medium Density)
pins: 1 AVCC (power) "Positive analog supply voltage", 2 DVCC (power) "Positive digital supply voltage", 3 SVCC (power) "Switched AVCC to analog-to-digital converter", 4 REXT (in) "Programming resistor input of internal current source", 5 A2 (in) "Analog-to-digital converter input port 2 or digital input port 2", 6 A3 (in) "Analog-to-digital converter input port 3 or digital input port 3", 7 A4 (in) "Analog-to-digital converter input port 4 or digital input port 4", 8 A5 (in) "Analog-to-digital converter input port 5 or digital input port 5", 9 XIN "Input terminal of crystal oscillator", 10 XOUT/TCLK, 11 CIN (in) "Input used as enable of counter TPCNT1 - Timer/Port", 12 TP0.0 (hiz) "General-purpose 3-state digital output port, bit 0 - Timer/Port", 13 TP0.1 (hiz) "General-purpose 3-state digital output port, bit 1 - Timer/Port", 14 TP0.2 (hiz) "General-purpose 3-state digital output port, bit 2 - Timer/Port", 15 TP0.3 (hiz) "General-purpose 3-state digital output port, bit 3 - Timer/Port", 16 TP0.4 (hiz) "General-purpose 3-state digital output port, bit 4 - Timer/Port", 17 TP0.5 (io) "General-purpose digital input/output port, bit 5 - Timer/Port", 18 P0.0 (io) "General-purpose digital I/O", 19 P0.1/RXD (io), 20 P0.2/TXD (io), 21 P0.3 (io) "General-purpose digital I/O", 22 P0.4 (io) "General-purpose digital I/O", 23 P0.5 (io) "General-purpose digital I/O", 24 P0.6 (io) "General-purpose digital I/O", 25 P0.7 (io) "General-purpose digital I/O", 26 R33 (out) "Output of first positive analog LCD level (V1) - LCD", 27 R23 (in) "Input of second positive analog LCD level (V2) - LCD", 28 R13 (in) "Input of third positive analog LCD level (V3) - LCD", 29 R03 (in) "Input of fourth positive analog LCD level (V4) - LCD", 30 S0 (out) "Segment line S0 - LCD", 31 S1 (out) "Segment line S1 - LCD", 32 S2/O2 (out), 33 S3/O3 (out), 34 S4/O4 (out), 35 S5/O5 (out), 36 S6/O6 (out), 37 S7/O7 (out), 38 S8/O8 (out), 39 S9/O9 (out), 40 S10/O10 (out), 41 S11/O11 (out), 42 S12/O12 (out), 43 S13/O13 (out), 44 S14/O14 (out), 45 S15/O15 (out), 46 S16/O16 (out), 47 S17/O17 (out), 48 S18/O18 (out), 49 S19/O19 (out), 50 S20/O20/CMPI (io), 51 COM0 (out) "Common output, used for LCD backplane - LCD", 52 COM1 (out) "Common output, used for LCD backplane - LCD", 53 COM2 (out) "Common output, used for LCD backplane - LCD", 54 COM3 (out) "Common output, used for LCD backplane - LCD", 55 TDO/TDI (io), 56 TDI/VPP (in), 57 TMS (in) "Test mode select, input terminal for device programming and test", 58 TCK (in) "Test clock, clock input terminal for device programming and test", 59 ~{RST}/NMI (in), 60 XBUF (out) "Clock signal output of system clock MCLK or crystal clock ACLK", 61 A0 (in) "Analog-to-digital converter input port 0 or digital input port 0", 62 A1 (in) "Analog-to-digital converter input port 1 or digital input port 1", 63 AVSS (power) "Analog ground reference", 64 DVSS (power) "Digital ground reference"